# Altium schematic symbol library MT3608_SOT-23-6_Boost_IC.SchLib: 1 symbol
Pins are listed as number, name and electrical type; pins without a type are passive.

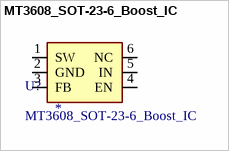
[diagram p0: symbol MT3608_SOT-23-6_Boost_IC]

## MT3608_SOT-23-6_Boost_IC
designator U?
LCSC: *
footprint MT3608_SOT-23-6_Boost_IC
pins: 1 SW, 2 GND, 3 FB, 4 EN, 5 IN, 6 NC